# EAGLE library part 12214-8250-00FR (library 12214-8250-00FR)
D-Sub Micro-D Connectors 0.8mm 14P R/A RECEPT SMT 30u GOLD Source: Datasheet <https://componentsearchengine.com/Datasheets/1/12214-8250-00FR.pdf>
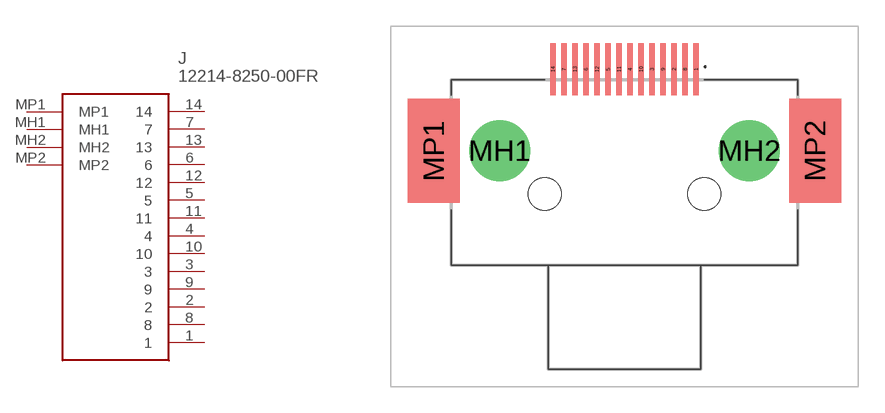
[diagram p0: symbol with the pads of 12214825000FR; footprint 12214825000FR]

Designator prefix J

## 12214-8250-00FR (Description: D-Sub Micro-D Connectors 0.8mm 14P R/A RECEPT SMT 30u GOLD; Height: 5.3mm; Manufacturer_Name: 3M; Manufacturer_Part_Number: 12214-8250-00FR; Mouser_Part_Number: 517-12214-825000FR; Mouser_Price-Stock: https://www.mouser.co.uk/ProductDetail/3M-Electronic-Solutions-Division/12214-8250-00FR?qs=9ksnFUyBSYytHybLYSpAmg%3D%3D)  [12214825000FR]
1  1
2  2
3  3
4  4
5  5
6  6
7  7
8  8
9  9
10  10
11  11
12  12
13  13
14  14
MH1  MH1
MH2  MH2
MP1  MP1
MP2  MP2

## Footprint 12214825000FR (pad centres in mm)
12214-8250-00FR-2
smd 0.335 x 3: 1 4.127,8.65; 2 2.857,8.65; 3 1.587,8.65; 4 0.317,8.65; 5 -0.953,8.65; 6 -2.223,8.65; 7 -3.493,8.65; 8 3.492,8.65; 9 2.223,8.65; 10 0.953,8.65; 11 -0.318,8.65; 12 -1.588,8.65; 13 -2.858,8.65; 14 -4.128,8.65
drill 2.35 pad 3.525: MH1 -7.2,3.95; MH2 7.2,3.95
smd 3 x 6: MP1 -11,3.95; MP2 11,3.95
hole 1.88 at -4.6,1.45
hole 1.88 at 4.6,1.45